# Altium integrated library Analog Devices Data Converters Analog-to-Digital Converters.IntLib: 2400 symbols (part 324 of 338)
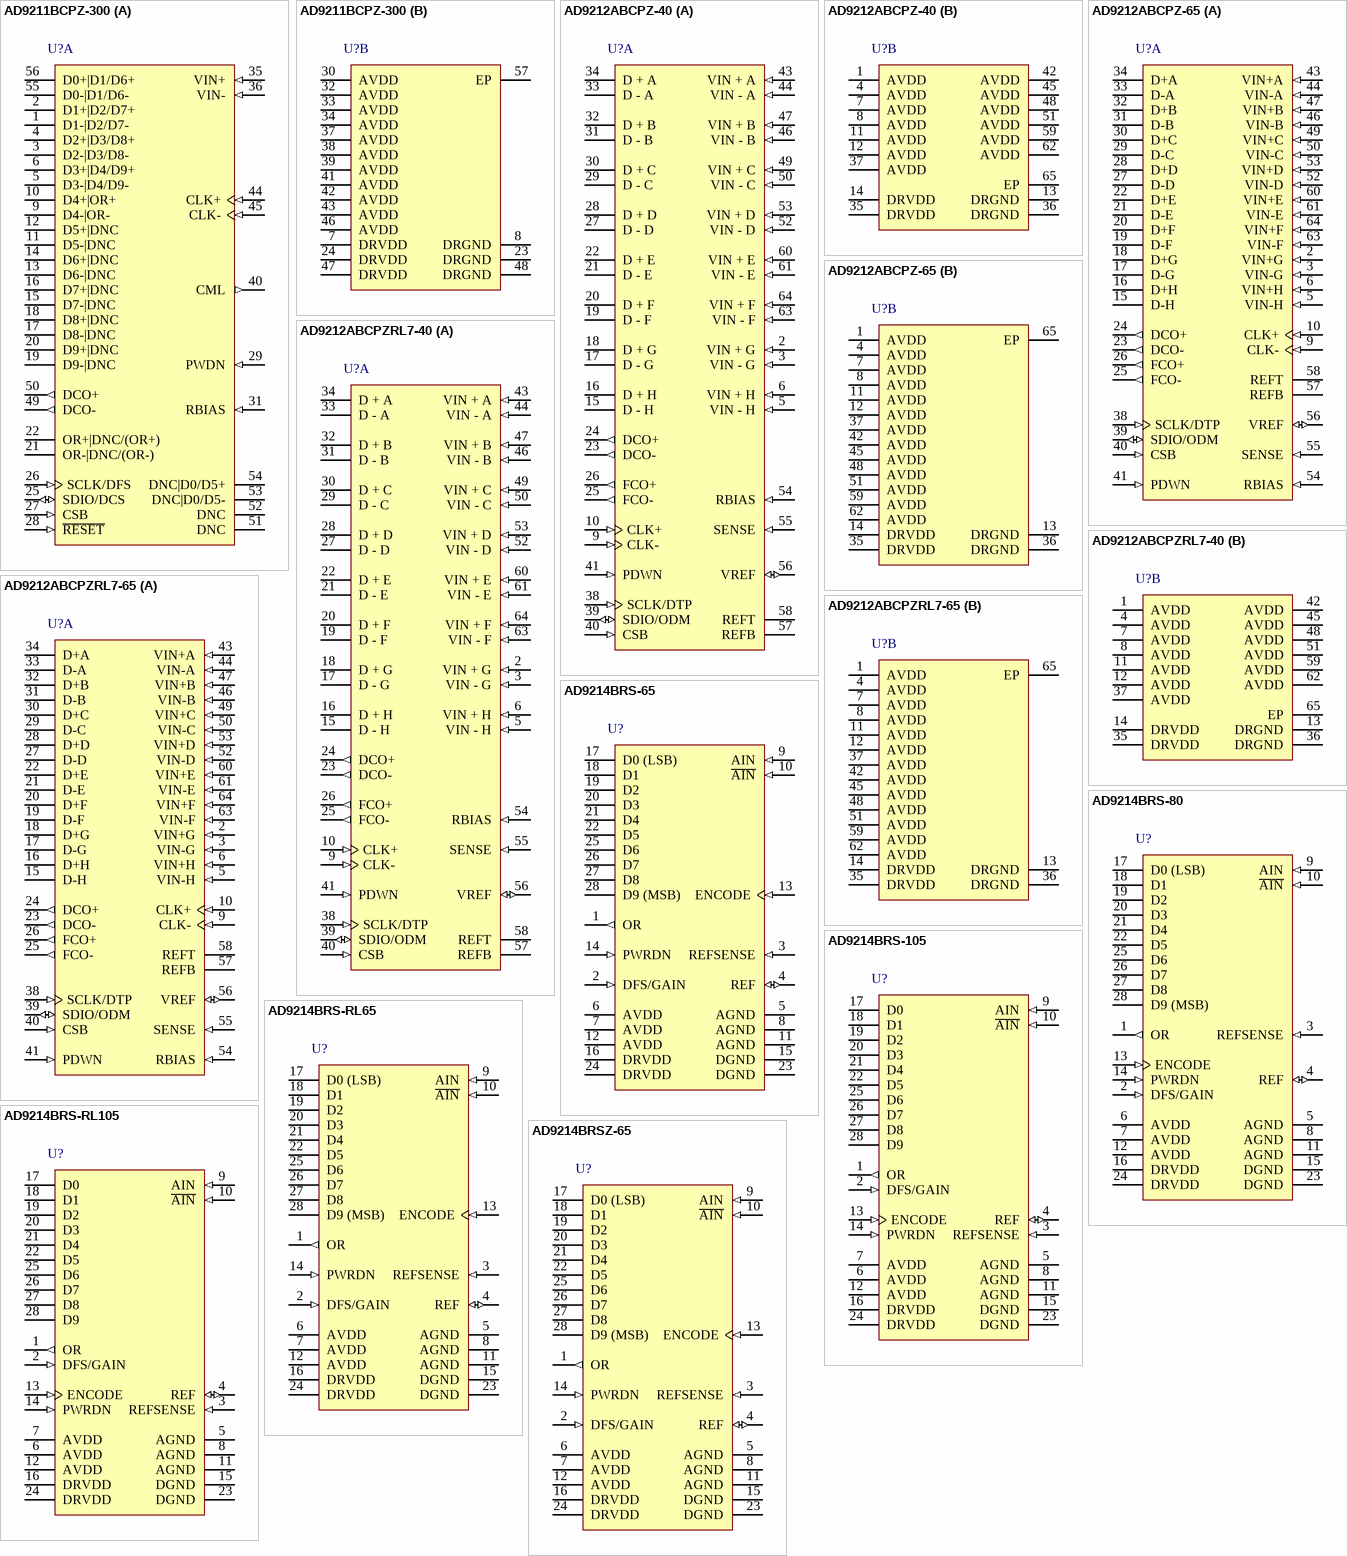
[diagram p431: symbols AD9211BCPZ-300 to AD9214BRSZ-65]

## AD9212ABCPZ-40
designator U?
Octal 10-Bit Analog-to-Digital Converter with LVDS, Serial Interface, 1.8 V, 40MSPS, -40 to +85 degC, CP-64-6, Pb-Free, Tray; Part Number: AD9212-40; Manufacturer: Analog Devices; Resolution (Bits): 10; Channels: 8; Throughput Rate (SPS): 40M; DatasheetVersion: Rev.E; PackageVersion: 041509-A; PackageReference: CP-64-6; PackageDescription: 64-Lead Lead Frame Chip Scale Package [LFCSP_VQ] 9 x 9 mm Body, Very Thin Quad; Interface: LVDS, Ser; RoHS: Y; Packing: Tray; Mounting Technology: Surface Mount; Code_JEDEC: MO-220-VMMD-4; ComponentLink1Description: Manufacturer URL; ComponentLink1URL: http://www.analog.com/en/index.html; ComponentLink2Description: Datasheet; ComponentLink2URL: http://www.analog.com/static/imported-files/data_sheets/AD9212.pdf; ComponentLink3Description: Package Specification; ComponentLink3URL: http://www.analog.com/static/imported-files/packages/PKG_PDF/LFCSP(CP)/CP_64_6.pdf; ComponentLink4Description: Product URL; ComponentLink4URL: http://www.analog.com/en/analog-to-digital-converters/ad-converters/ad9212/products/product.html
footprint CP-64-6_N (QFN, 64-Leads, Body 9x9mm, Pitch 0.5mm, Thermal Pad 7.5x7.5mm, IPC Medium Density)
footprint CP-64-6_L (QFN, 64-Leads, Body 9x9mm, Pitch 0.5mm, Thermal Pad 7.5x7.5mm, IPC High Density)
footprint CP-64-6_M (QFN, 64-Leads, Body 9x9mm, Pitch 0.5mm, Thermal Pad 7.5x7.5mm, IPC Low Density)
part A pins: 2 VIN + G (in) "ADC G Analog Input True", 3 VIN - G (in) "ADC G Analog Input Complement", 5 VIN - H (in) "ADC H Analog Input Complement", 6 VIN + H (in) "ADC H Analog Input True", 9 CLK- (in) "Input Clock Complement", 10 CLK+ (in) "Input Clock True", 15 D - H (hiz) "ADC H Digital Output Complement", 16 D + H (hiz) "ADC H Digital Output True", 17 D - G (hiz) "ADC G Digital Output Complement", 18 D + G (hiz) "ADC G Digital Output True", 19 D - F (hiz) "ADC F Digital Output Complement", 20 D + F (hiz) "ADC F Digital Output True", 21 D - E (hiz) "ADC E Digital Output Complement", 22 D + E (hiz) "ADC E Digital Output True", 23 DCO- (out) "Data Clock Digital Output Complement", 24 DCO+ (out) "Data Clock Digital Output True", 25 FCO- (out) "Frame Clock Digital Output Complement", 26 FCO+ (out) "Frame Clock Digital Output True", 27 D - D (hiz) "ADC D Digital Output Complement", 28 D + D (hiz) "ADC D Digital Output True", 29 D - C (hiz) "ADC C Digital Output Complement", 30 D + C (hiz) "ADC C Digital Output True", 31 D - B (hiz) "ADC B Digital Output Complement", 32 D + B (hiz) "ADC B Digital Output True", 33 D - A (hiz) "ADC A Digital Output Complement", 34 D + A (hiz) "ADC A Digital Output True", 38 SCLK/DTP (in) "Serial Clock/Digital Test Pattern", 39 SDIO/ODM (io) "Serial Data Input-Output/Output Driver Mode", 40 CSB (in) "Chip Select Bar", 41 PDWN (in) "Power-Down", 43 VIN + A (in) "ADC A Analog Input True", 44 VIN - A (in) "ADC A Analog Input Complement", 46 VIN - B (in) "ADC B Analog Input Complement", 47 VIN + B (in) "ADC B Analog Input True", 49 VIN + C (in) "ADC C Analog Input True", 50 VIN - C (in) "ADC C Analog Input Complement", 52 VIN - D (in) "ADC D Analog Input Complement", 53 VIN + D (in) "ADC D Analog Input True", 54 RBIAS (in) "External Resistor to Set the Internal ADC Core Bias Current", 55 SENSE (in) "Reference Mode Selection", 56 VREF (io) "Voltage Reference Input/Output", 57 REFB "Negative Differential Reference", 58 REFT "Positive Differential Reference", 60 VIN + E (in) "ADC E Analog Input True", 61 VIN - E (in) "ADC E Analog Input Complement", 63 VIN - F (in) "ADC F Analog Input Complement", 64 VIN + F (in) "ADC F Analog Input True"
part B pins: 1 AVDD (power) "1.8 V Analog Supply", 4 AVDD (power) "1.8 V Analog Supply", 7 AVDD (power) "1.8 V Analog Supply", 8 AVDD (power) "1.8 V Analog Supply", 11 AVDD (power) "1.8 V Analog Supply", 12 AVDD (power) "1.8 V Analog Supply", 13 DRGND (power) "Digital Output Driver Ground", 14 DRVDD (power) "1.8 V Digital Output Driver Supply", 35 DRVDD (power) "1.8 V Digital Output Driver Supply", 36 DRGND (power) "Digital Output Driver Ground", 37 AVDD (power) "1.8 V Analog Supply", 42 AVDD (power) "1.8 V Analog Supply", 45 AVDD (power) "1.8 V Analog Supply", 48 AVDD (power) "1.8 V Analog Supply", 51 AVDD (power) "1.8 V Analog Supply", 59 AVDD (power) "1.8 V Analog Supply", 62 AVDD (power) "1.8 V Analog Supply", 65 EP (power) "Analog Ground (Exposed Paddle)"

## AD9212ABCPZ-65
designator U?
Octal 10-Bit Analog-to-Digital Converter with LVDS, Serial Interface, 1.8 V 65MSPS, -40 to +85 degC, CP-64-6, Pb-Free, Tray; Part Number: AD9212-65; Manufacturer: Analog Devices; Resolution (Bits): 10; Channels: 8; Throughput Rate (SPS): 65M; DatasheetVersion: Rev.E; PackageVersion: 041509-A; PackageReference: CP-64-6; PackageDescription: 64-Lead Lead Frame Chip Scale Package [LFCSP_VQ] 9 x 9 mm Body, Very Thin Quad; Interface: LVDS, Ser; RoHS: Y; Packing: Tray; Mounting Technology: Surface Mount; Code_JEDEC: MO-220-VMMD-4; ComponentLink1Description: Manufacturer URL; ComponentLink1URL: http://www.analog.com/en/index.html; ComponentLink2Description: Datasheet; ComponentLink2URL: http://www.analog.com/static/imported-files/data_sheets/AD9212.pdf; ComponentLink3Description: Package Specification; ComponentLink3URL: http://www.analog.com/static/imported-files/packages/PKG_PDF/LFCSP(CP)/CP_64_6.pdf; ComponentLink4Description: Product URL; ComponentLink4URL: http://www.analog.com/en/analog-to-digital-converters/ad-converters/ad9212/products/product.html
footprint CP-64-6_N (QFN, 64-Leads, Body 9x9mm, Pitch 0.5mm, Thermal Pad 7.5x7.5mm, IPC Medium Density)
footprint CP-64-6_L (QFN, 64-Leads, Body 9x9mm, Pitch 0.5mm, Thermal Pad 7.5x7.5mm, IPC High Density)
footprint CP-64-6_M (QFN, 64-Leads, Body 9x9mm, Pitch 0.5mm, Thermal Pad 7.5x7.5mm, IPC Low Density)
part A pins: 2 VIN+G (in) "ADC G Analog Input True.", 3 VIN-G (in) "ADC G Analog Input Complement.", 5 VIN-H (in) "ADC H Analog Input Complement.", 6 VIN+H (in) "ADC H Analog Input True.", 9 CLK- (in) "Input Clock Complement", 10 CLK+ (in) "Input Clock True.", 15 D-H (hiz) "ADC H Digital Output Complement.", 16 D+H (hiz) "ADC H Digital Output True.", 17 D-G (hiz) "ADC G Digital Output Complement", 18 D+G (hiz) "ADC G Digital Output True.", 19 D-F (hiz) "ADC F Digital Output Complement", 20 D+F (hiz) "ADC F Digital Output True.", 21 D-E (hiz) "ADC E Digital Output Complement", 22 D+E (hiz) "ADC E Digital Output True.", 23 DCO- (out) "Data Clock Digital Output Complement", 24 DCO+ (out) "Data Clock Digital Output True.", 25 FCO- (out) "Frame Clock Digital Output Complement", 26 FCO+ (out) "Frame Clock Digital Output True.", 27 D-D (hiz) "ADC D Digital Output Complement", 28 D+D (hiz) "ADC D Digital Output True.", 29 D-C (hiz) "ADC C Digital Output Complement", 30 D+C (hiz) "ADC C Digital Output True.", 31 D-B (hiz) "ADC B Digital Output Complement", 32 D+B (hiz) "ADC B Digital Output True.", 33 D-A (hiz) "ADC A Digital Output Complement", 34 D+A (hiz) "ADC A Digital Output True.", 38 SCLK/DTP (in) "Serial Clock/Digital Test Pattern", 39 SDIO/ODM (io) "Serial Data Input-Output/Output Driver Mode", 40 CSB (in) "Chip Select Bar.", 41 PDWN (in) "Power-Down.", 43 VIN+A (in) "ADC A Analog Input True", 44 VIN-A (in) "ADC A Analog Input Complement.", 46 VIN-B (in) "ADC B Analog Input Complement", 47 VIN+B (in) "ADC B Analog Input True.", 49 VIN+C (in) "ADC C Analog Input True", 50 VIN-C (in) "ADC C Analog Input Complement.", 52 VIN-D (in) "ADC D Analog Input Complement", 53 VIN+D (in) "ADC D Analog Input True.", 54 RBIAS (in) "External Resistor to Set the Internal ADC Core Bias Current", 55 SENSE (in) "Reference Mode Selection", 56 VREF (io) "Voltage Reference Input/Output", 57 REFB "Negative Differential Reference", 58 REFT "Positive Differential Reference", 60 VIN+E (in) "ADC E Analog Input True", 61 VIN-E (in) "ADC E Analog Input Complement.", 63 VIN-F (in) "ADC F Analog Input Complement", 64 VIN+F (in) "ADC F Analog Input True."
part B pins: 1 AVDD (power) "1.8 V Analog Supply.", 4 AVDD (power) "1.8 V Analog Supply.", 7 AVDD (power) "1.8 V Analog Supply.", 8 AVDD (power) "1.8 V Analog Supply.", 11 AVDD (power) "1.8 V Analog Supply.", 12 AVDD (power) "1.8 V Analog Supply.", 13 DRGND (power) "Digital Output Driver Ground", 14 DRVDD (power) "1.8 V Digital Output Driver Supply.", 35 DRVDD (power) "1.8 V Digital Output Driver Supply.", 36 DRGND (power) "Digital Output Driver Ground", 37 AVDD (power) "1.8 V Analog Supply.", 42 AVDD (power) "1.8 V Analog Supply.", 45 AVDD (power) "1.8 V Analog Supply.", 48 AVDD (power) "1.8 V Analog Supply.", 51 AVDD (power) "1.8 V Analog Supply.", 59 AVDD (power) "1.8 V Analog Supply.", 62 AVDD (power) "1.8 V Analog Supply.", 65 EP (power) "Analog Ground (Exposed Paddle)"

## AD9212ABCPZRL7-40
designator U?
Octal 10-Bit Analog-to-Digital Converter with LVDS, Serial Interface, 1.8 V, 40MSPS, -40 to +85 degC, CP-64-6, Pb-Free, Reel; Part Number: AD9212-40; Manufacturer: Analog Devices; Resolution (Bits): 10; Channels: 8; Throughput Rate (SPS): 40M; DatasheetVersion: Rev.E; PackageVersion: 041509-A; PackageReference: CP-64-6; PackageDescription: 64-Lead Lead Frame Chip Scale Package [LFCSP_VQ] 9 x 9 mm Body, Very Thin Quad; Interface: LVDS, Ser; RoHS: Y; Packing: Reel; Mounting Technology: Surface Mount; Code_JEDEC: MO-220-VMMD-4; ComponentLink1Description: Manufacturer URL; ComponentLink1URL: http://www.analog.com/en/index.html; ComponentLink2Description: Datasheet; ComponentLink2URL: http://www.analog.com/static/imported-files/data_sheets/AD9212.pdf; ComponentLink3Description: Package Specification; ComponentLink3URL: http://www.analog.com/static/imported-files/packages/PKG_PDF/LFCSP(CP)/CP_64_6.pdf; ComponentLink4Description: Product URL; ComponentLink4URL: http://www.analog.com/en/analog-to-digital-converters/ad-converters/ad9212/products/product.html
footprint CP-64-6_N (QFN, 64-Leads, Body 9x9mm, Pitch 0.5mm, Thermal Pad 7.5x7.5mm, IPC Medium Density)
footprint CP-64-6_L (QFN, 64-Leads, Body 9x9mm, Pitch 0.5mm, Thermal Pad 7.5x7.5mm, IPC High Density)
footprint CP-64-6_M (QFN, 64-Leads, Body 9x9mm, Pitch 0.5mm, Thermal Pad 7.5x7.5mm, IPC Low Density)
part A pins: 2 VIN + G (in) "ADC G Analog Input True", 3 VIN - G (in) "ADC G Analog Input Complement", 5 VIN - H (in) "ADC H Analog Input Complement", 6 VIN + H (in) "ADC H Analog Input True", 9 CLK- (in) "Input Clock Complement", 10 CLK+ (in) "Input Clock True", 15 D - H (hiz) "ADC H Digital Output Complement", 16 D + H (hiz) "ADC H Digital Output True", 17 D - G (hiz) "ADC G Digital Output Complement", 18 D + G (hiz) "ADC G Digital Output True", 19 D - F (hiz) "ADC F Digital Output Complement", 20 D + F (hiz) "ADC F Digital Output True", 21 D - E (hiz) "ADC E Digital Output Complement", 22 D + E (hiz) "ADC E Digital Output True", 23 DCO- (out) "Data Clock Digital Output Complement", 24 DCO+ (out) "Data Clock Digital Output True", 25 FCO- (out) "Frame Clock Digital Output Complement", 26 FCO+ (out) "Frame Clock Digital Output True", 27 D - D (hiz) "ADC D Digital Output Complement", 28 D + D (hiz) "ADC D Digital Output True", 29 D - C (hiz) "ADC C Digital Output Complement", 30 D + C (hiz) "ADC C Digital Output True", 31 D - B (hiz) "ADC B Digital Output Complement", 32 D + B (hiz) "ADC B Digital Output True", 33 D - A (hiz) "ADC A Digital Output Complement", 34 D + A (hiz) "ADC A Digital Output True", 38 SCLK/DTP (in) "Serial Clock/Digital Test Pattern", 39 SDIO/ODM (io) "Serial Data Input-Output/Output Driver Mode", 40 CSB (in) "Chip Select Bar", 41 PDWN (in) "Power-Down", 43 VIN + A (in) "ADC A Analog Input True", 44 VIN - A (in) "ADC A Analog Input Complement", 46 VIN - B (in) "ADC B Analog Input Complement", 47 VIN + B (in) "ADC B Analog Input True", 49 VIN + C (in) "ADC C Analog Input True", 50 VIN - C (in) "ADC C Analog Input Complement", 52 VIN - D (in) "ADC D Analog Input Complement", 53 VIN + D (in) "ADC D Analog Input True", 54 RBIAS (in) "External Resistor to Set the Internal ADC Core Bias Current", 55 SENSE (in) "Reference Mode Selection", 56 VREF (io) "Voltage Reference Input/Output", 57 REFB "Negative Differential Reference", 58 REFT "Positive Differential Reference", 60 VIN + E (in) "ADC E Analog Input True", 61 VIN - E (in) "ADC E Analog Input Complement", 63 VIN - F (in) "ADC F Analog Input Complement", 64 VIN + F (in) "ADC F Analog Input True"
part B pins: 1 AVDD (power) "1.8 V Analog Supply", 4 AVDD (power) "1.8 V Analog Supply", 7 AVDD (power) "1.8 V Analog Supply", 8 AVDD (power) "1.8 V Analog Supply", 11 AVDD (power) "1.8 V Analog Supply", 12 AVDD (power) "1.8 V Analog Supply", 13 DRGND (power) "Digital Output Driver Ground", 14 DRVDD (power) "1.8 V Digital Output Driver Supply", 35 DRVDD (power) "1.8 V Digital Output Driver Supply", 36 DRGND (power) "Digital Output Driver Ground", 37 AVDD (power) "1.8 V Analog Supply", 42 AVDD (power) "1.8 V Analog Supply", 45 AVDD (power) "1.8 V Analog Supply", 48 AVDD (power) "1.8 V Analog Supply", 51 AVDD (power) "1.8 V Analog Supply", 59 AVDD (power) "1.8 V Analog Supply", 62 AVDD (power) "1.8 V Analog Supply", 65 EP (power) "Analog Ground (Exposed Paddle)"